# Altium footprint library UJ20-C-H-G-SMT-P16-TR-67.PcbLib: 1 footprints
Each footprint in its own frame and in the unit in brackets; x right, y up, seen from the top. Pads: shape width x height; smd on the part's side, far side on the other; paste and mask are expansions set on the pad; w line width, h text height; cw(c..) or ccw(c..) is an arc to the next point about the centre after c.
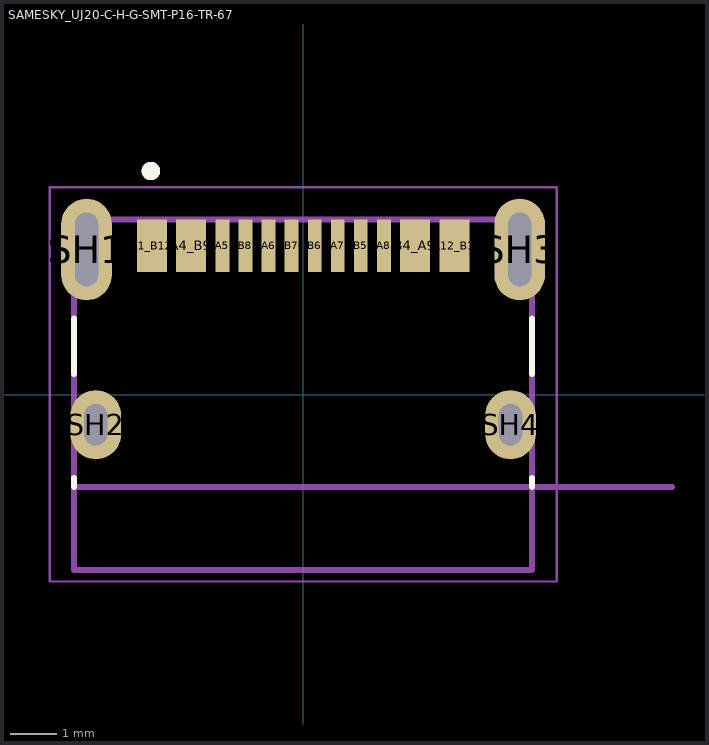
[diagram p0: the footprint, top view; thin cyan lines are the x and y axes]

## SAMESKY_UJ20-C-H-G-SMT-P16-TR-67 [mm]
height 2.245
pads (16):
  rect 0.65x1.14 smd: A1_B12(-3.28,3.23) A4_B9(-2.43,3.23) A12_B1(3.28,3.23) B4_A9(2.43,3.23)
  rect 0.3x1.14 smd: A5(-1.75,3.23) A6(-0.75,3.23) A7(0.75,3.23) A8(1.75,3.23) B5(1.25,3.23) B6(0.25,3.23) B7(-0.25,3.23) B8(-1.25,3.23)
  oval 1.1x2.2 hole 0.5 slot 1.6 at 90 deg: SH1(-4.695,3.15) SH3(4.695,3.15)
  oval 1.1x1.5 hole 0.5 slot 0.9 at 90 deg: SH2(-4.495,-0.65) SH4(4.495,-0.65)
Top Overlay:
  circle w0.2: c-3.3,4.85 r0.1
  lines w0.127: -4.965,-2 -4.965,-1.8 ; -4.965,0.45 -4.965,1.65 ; 4.965,-2 4.965,-1.8 ; 4.965,0.45 4.965,1.65
Mechanical 13:
  circle w0.2: c-3.3,4.85 r0.1
  lines w0.127: 8,-2 -4.965,-2 ; -4.965,-2 -4.965,-3.8 4.965,-3.8 4.965,3.8 -4.965,3.8 -4.965,-2
  text "PCB EDGE" at 5.7,-1.85 h0.9
Mechanical 15:
  lines w0.05: -5.495,-4.05 5.495,-4.05 5.495,4.5 -5.495,4.5 -5.495,-4.05
3D body "Same_Sky_UJ20-C-H-G-SMT-P16-TR-67.step": height 3.4, standoff -1.14, extent -5.092,-3.79 4.838,3.81